# EAGLE library part BVREG_MAX15062 (library FA3D_lib)
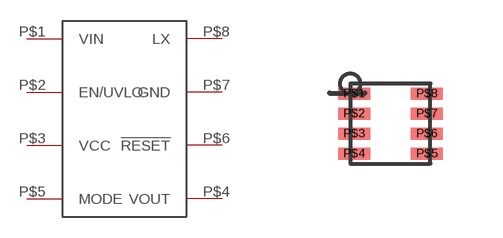
[diagram p9: symbol with the pads of TDFN-8; footprint TDFN-8]

Designator prefix -

## BVREG_MAX15062  [TDFN-8]
P$1  VIN
P$2  EN/UVLO
P$3  VCC
P$4  VOUT
P$5  MODE
P$6  !RESET
P$7  GND
P$8  LX

## Footprint TDFN-8 (pad centres in mm)
smd 0.8 x 0.3: P$1 -0.91,0.75; P$2 -0.91,0.25; P$3 -0.91,-0.25; P$4 -0.91,-0.75; P$5 0.91,-0.75; P$6 0.91,-0.25; P$7 0.91,0.25; P$8 0.91,0.75